# Altium schematic symbol library TPSB686K010R0600.SchLib: 1 symbol
Pins are listed as number, name and electrical type; pins without a type are passive.

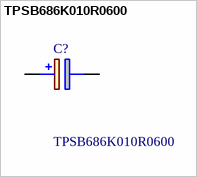
[diagram p0: symbol TPSB686K010R0600]

## TPSB686K010R0600
designator C?
AVX Electrolytic Capacitor 68F 10V dc Electrolytic Solid +/-10% Tolerance TPS Series; Geometry.Height: 2.1mm; Mouser Part Number: 581-TPSB686K010R0600; Mouser Price/Stock: https://www.mouser.com/Search/Refine.aspx?Keyword=581-TPSB686K010R0600; Manufacturer_Name: AVX; Manufacturer_Part_Number: TPSB686K010R0600; Datasheet Link: https://componentsearchengine.com/Datasheets/1/TPSB686K010R0600.pdf
footprint CAPPM3528X210N
pins: 1 +, 2 -